# Altium footprint library Miner-8Chips.PcbLib: 43 footprints (part 3 of 3)
Each footprint in its own frame and in the unit in brackets; x right, y up, seen from the top. Pads: shape width x height; smd on the part's side, far side on the other; paste and mask are expansions set on the pad; w line width, h text height; cw(c..) or ccw(c..) is an arc to the next point about the centre after c.
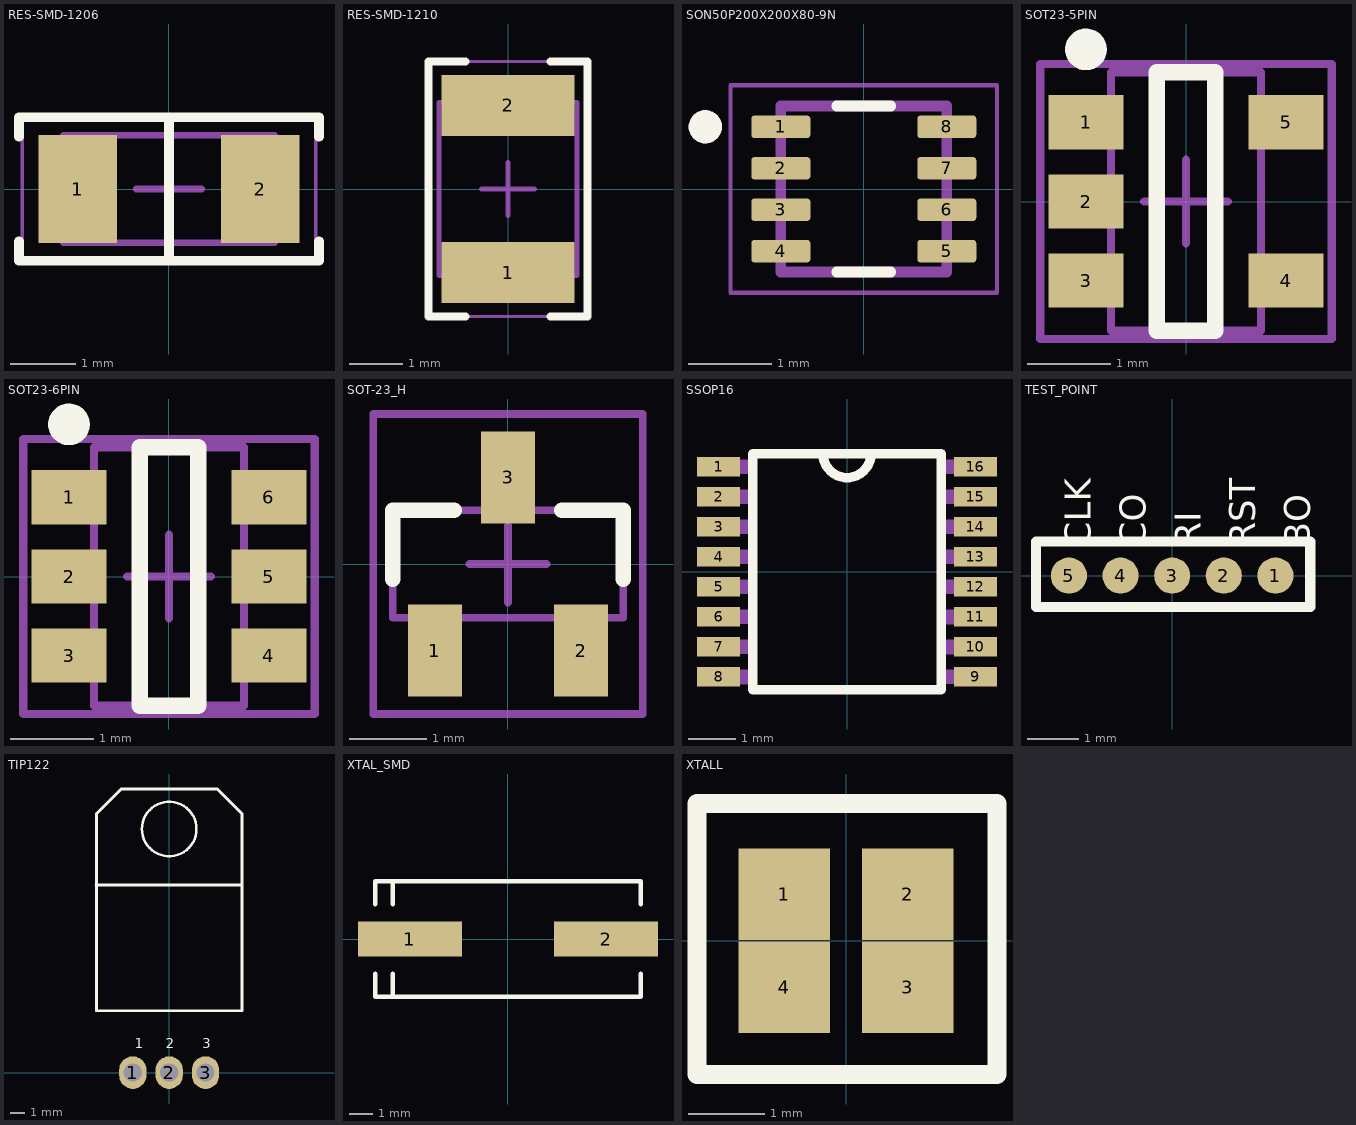
[diagram p2: the footprints below, top view; thin cyan lines are the x and y axes]

## RES-SMD-1206 [mm]
pads (2):
  rect 1.2x1.65 smd: 1(-1.4,0) 2(1.4,0)
Top Overlay:
  lines w0.15: -2.3,-0.8 -2.3,-1.1 2.3,-1.1 2.3,-0.8 ; -2.3,0.8 -2.3,1.1 2.3,1.1 2.3,0.8 ; 0,-1.1 0,1.1
Mechanical 13:
  lines w0.1: -1.625,-0.825 1.625,-0.825 1.625,0.825 -1.625,0.825 -1.625,-0.825
Mechanical 15:
  lines w0.05: -2.25,-1.1 2.25,-1.1 2.25,1.1 -2.25,1.1 -2.25,-1.1
  lines w0.1: -0.5,0 0.5,0 ; 0,-0.5 0,0.5
3D body "1206 resistor.STEP": height 0.6, standoff 0, extent -1.575,-0.8 1.625,0.8

## RES-SMD-1210 [mm]
pads (2):
  rect 2.5x1.15 smd: 1(0,-1.575) 2(0,1.575)
Top Overlay:
  lines w0.15: -0.8,-2.4 -1.5,-2.4 -1.5,2.4 -0.8,2.4 ; 0.8,-2.4 1.5,-2.4 1.5,2.4 0.8,2.4
Mechanical 13:
  lines w0.1: -1.3,-1.625 1.3,-1.625 1.3,1.625 -1.3,1.625 -1.3,-1.625
Mechanical 15:
  lines w0.05: -1.5,-2.4 1.5,-2.4 1.5,2.4 -1.5,2.4 -1.5,-2.4
  lines w0.1: -0.5,0 0.5,0 ; 0,-0.5 0,0.5
3D body "RES - 1210.step": height 0.7, standoff 0, extent -1.25,-1.6 1.25,1.6

## SON50P200X200X80-9N [mm]
pads (8):
  rrect25% 0.71x0.27 smd: 1(-1,0.75) 2(-1,0.25) 3(-1,-0.25) 4(-1,-0.75) 5(1,-0.75) 6(1,-0.25) 7(1,0.25) 8(1,0.75)
Top Overlay:
  circle w0.2: c-1.91,0.75 r0.1
  lines w0.127: -0.325,-1 0.325,-1 ; -0.325,1 0.325,1
Mechanical 13:
  circle w0.2: c-1.91,0.75 r0.1
  lines w0.127: -1,-1 1,-1 1,1 -1,1 -1,-1
Mechanical 15:
  lines w0.05: -1.605,-1.25 1.605,-1.25 1.605,1.25 -1.605,1.25 -1.605,-1.25

## SOT23-5PIN [mm]
pads (5):
  rect 0.9x0.65 smd: 1(-1.2,0.95) 2(-1.2,0) 3(-1.2,-0.95) 4(1.2,-0.95) 5(1.2,0.95)
Top Overlay:
  circle w0.25: c-1.2,1.825 r0.125
  lines w0.2: -0.35,-1.55 -0.35,1.55 0.35,1.55 0.35,-1.55 -0.35,-1.55
Mechanical 13:
  lines w0.1: -0.9,-1.55 0.9,-1.55 0.9,1.55 -0.9,1.55 -0.9,-1.55
Mechanical 15:
  lines w0.1: -0.5,0 0.5,0 ; 0,-0.5 0,0.5 ; -1.75,-1.65 1.75,-1.65 1.75,1.65 -1.75,1.65 -1.75,-1.65
3D body: height 1.45, standoff 0, extent -0.9,-1.55 0.9,1.55

## SOT23-6PIN [mm]
pads (6):
  rect 0.9x0.65 smd: 1(-1.2,0.95) 2(-1.2,0) 3(-1.2,-0.95) 4(1.2,-0.95) 5(1.2,0) 6(1.2,0.95)
Top Overlay:
  circle w0.25: c-1.2,1.825 r0.125
  lines w0.2: -0.35,-1.55 0.35,-1.55 0.35,1.55 -0.35,1.55 -0.35,-1.55
Mechanical 13:
  lines w0.1: -0.9,-1.55 -0.9,1.55 0.9,1.55 0.9,-1.55 -0.9,-1.55
Mechanical 15:
  lines w0.1: -0.5,0 0.5,0 ; 0,-0.5 0,0.5 ; -1.75,-1.65 -1.75,1.65 1.75,1.65 1.75,-1.65 -1.75,-1.65
3D body: height 1.45, standoff 0, extent -0.9,-1.55 0.9,1.55

## SOT-23_H [mm] "SOT23, 3-Leads, Body 2.9x1.3mm, Pitch 0.95mm, Lead Span 2.5mm, IPC Medium Density"
height 1.1
pads (3):
  rect 0.7x1.2 smd: 1(-0.95,-1.125) 2(0.95,-1.125) 3(0,1.125)
Top Overlay:
  lines w0.2: -1.5,-0.2 -1.5,0.7 -0.7,0.7 ; 0.7,0.7 1.5,0.7 1.5,-0.2
Mechanical 13:
  lines w0.1: -1.5,-0.7 -1.5,0.7 1.5,0.7 1.5,-0.7 -1.5,-0.7
Mechanical 15:
  lines w0.1: -0.5,0 0.5,0 ; 0,-0.5 0,0.5 ; -1.75,-1.95 -1.75,1.95 1.75,1.95 1.75,-1.95 -1.75,-1.95
3D body "SOT-23-3.STEP": height 1.01, standoff 0, extent -1.5,-1.25 1.5,1.25

## SSOP16 [mil]
pads (16):
  rect 36x16 smd: 1(-107,87.5) 2(-107,62.5) 3(-107,37.5) 4(-107,12.5) 5(-107,-12.5) 6(-107,-37.5) 7(-107,-62.5) 8(-107,-87.5) 9(107,-87.5) 10(107,-62.5) 11(107,-37.5) 12(107,-12.5) 13(107,12.5) 14(107,37.5) 15(107,62.5) 16(107,87.5)
Top Overlay:
  lines w8: -20,98.4 ccw(c0,98.4) 20,98.4 ; -78.4,-98.4 -78.4,98.4 78.4,98.4 78.4,-98.4 -78.4,-98.4
Mechanical 13:
  region: 122,81.59 78.59,81.59 78.59,93.5 122,93.5
  region: 122,56.56 78.58,56.56 78.58,68.5 122,68.5
  region: 122,31.54 78.59,31.54 78.59,43.5 122,43.5
  region: 122,6.5 78.53,6.5 78.53,18.5 122,18.5
  region: 122,-18.53 78.62,-18.53 78.62,-6.5 122,-6.5
  region: 122,-43.56 78.6,-43.56 78.6,-31.5 122,-31.5
  region: 122,-68.6 78.61,-68.6 78.61,-56.5 122,-56.5
  region: 122,-93.53 78.53,-93.53 78.53,-81.5 122,-81.5
  region: -78.5,-93.56 -122.08,-93.56 -122.08,-81.5 -78.5,-81.5
  region: -78.5,-68.52 -122.03,-68.52 -122.03,-56.5 -78.5,-56.5
  region: -78.5,-43.55 -122.13,-43.55 -122.13,-31.5 -78.5,-31.5
  region: -78.5,-18.53 -122.18,-18.53 -122.18,-6.5 -78.5,-6.5
  region: -78.5,6.51 -122.23,6.51 -122.23,18.5 -78.5,18.5
  region: -78.5,31.54 -122.17,31.54 -122.17,43.5 -78.5,43.5
  region: -78.5,56.53 -122.07,56.53 -122.07,68.5 -78.5,68.5
  region: -78.5,81.57 -122.11,81.57 -122.11,93.5 -78.5,93.5

## TEST_POINT [mm]
pads (5):
  round 0.7 smd: 1(2,0) 2(1,0) 3(0,0) 4(-1,0) 5(-2,0)
Top Overlay:
  lines w0.2: -2.638,-0.61 2.674,-0.61 2.674,0.66 -2.638,0.66 -2.638,-0.61
  text "RI" at 0.549,0.559 h0.5
  text "BO" at 2.674,0.559 h0.5
  text "CO" at -0.513,0.559 h0.5
  text "RST" at 1.611,0.559 h0.5
  text "CLK" at -1.575,0.559 h0.5

## TIP122 [mil]
pads (3):
  oval 75x90 hole 50: 1(-100,0) 2(0,0) 3(100,0)
Top Overlay:
  circle w7: c0,670 r75
  lines w7.87: -201,516.22 199,516.22 ; -200,170 -200,578.74 -200,712 -132,780 132,780 200,712 200,170 -200,170
  text "2" at -10,66.93 h27.56
  text "3" at 91,66.93 h27.56
  text "1" at -95,66.93 h27.56
3D body "78XXCV.STEP": height 175, standoff -112.5, extent -198,-8 202,776

## XTAL_SMD [mm]
pads (2):
  rect 4.5x1.5 smd: 1(-4.25,0) 2(4.25,0)
Top Overlay:
  lines w0.2: -5.75,-1.5 -5.75,-2.5 5.75,-2.5 5.75,-1.5 ; -5.75,1.5 -5.75,2.5 5.75,2.5 5.75,1.5 ; -5,-2.5 -5,-1.5 ; -5,1.5 -5,2.5
3D body "User Library-HC49_SMD.STEP": height 5.18, standoff 0, extent -6.209,-2.25 6.091,2.25

## XTALL [mm]
pads (4):
  rect 1.2x1.2 smd: 1(-0.813,0.613) 2(0.813,0.613) 3(0.813,-0.612) 4(-0.813,-0.612)
Top Overlay:
  lines w0.254: -1.956,-1.755 1.981,-1.755 1.981,1.801 -1.956,1.801 -1.956,-1.755
3D body "ABM8.stp": height 0.87, standoff 0.07, extent -1.595,-1.27 1.605,1.23